# Altium schematic symbol library RC0603FR-07220RL.SchLib: 1 symbol
Pins are listed as number, name and electrical type; pins without a type are passive.

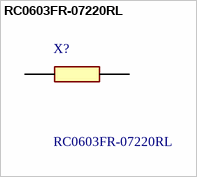
[diagram p0: symbol RC0603FR-07220RL]

## RC0603FR-07220RL
designator X?
YAGEO (PHYCOMP) - RC0603FR-07220RL - RES, THICK FILM, 220R, 1%, 0.1W, 0603; Manufacturer_Name: KEMET; Geometry.Height: 0.55mm; Manufacturer_Part_Number: RC0603FR-07220RL; Mouser Part Number: 603-RC0603FR-07220RL; Mouser Price/Stock: https://www.mouser.co.uk/ProductDetail/YAGEO/RC0603FR-07220RL?qs=VU8sRB4EgwA1IyQ0vhXEEw%3D%3D; Arrow Part Number: RC0603FR-07220RL; Arrow Price/Stock: https://www.arrow.com/en/products/rc0603fr-07220rl/yageo?region=nac; Datasheet Link: http://www.yageo.com/documents/recent/PYu-RC0603_51_RoHS_L_v5.pdf
footprint RESC1608X55N
pins: 1, 2